# EAGLE library part 74*125 (library clock)
Quad bus BUFFER, 3-state
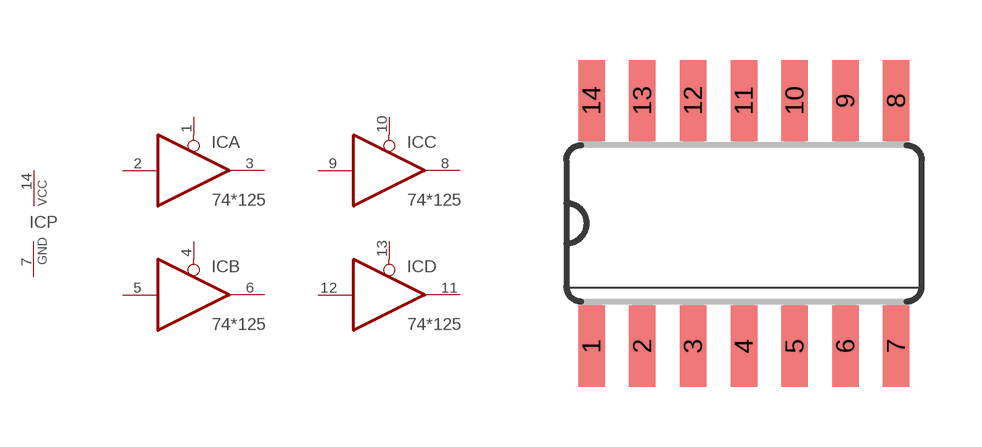
[diagram p0: symbol with the pads of SO14; footprint SO14]

Designator prefix IC; gates A=74125 B=74125 C=74125 D=74125 P=PWRN

## 74125D, 74ABT125D, 74AC125D, 74ACT125D, 74HC125D, 74HCT125D, 74LS125D  [SO14]
1  A:OE  in
2  A:I  in
3  A:O  hiz
4  B:OE  in
5  B:I  in
6  B:O  hiz
7  P:GND  pwr
8  C:O  hiz
9  C:I  in
10  C:OE  in
11  D:O  hiz
12  D:I  in
13  D:OE  in
14  P:VCC  pwr

## Footprint SO14 (pad centres in mm)
Small Outline package 150 mil
smd 0.66 x 2.032: 1 -3.81,-3.073; 2 -2.54,-3.073; 3 -1.27,-3.073; 4 0,-3.073; 5 1.27,-3.073; 6 2.54,-3.073; 7 3.81,-3.073; 8 3.81,3.073; 9 2.54,3.073; 10 1.27,3.073; 11 0,3.073; 12 -1.27,3.073; 13 -2.54,3.073; 14 -3.81,3.073